# Altium footprint library MiniChessBoardPcbLib.PcbLib: 10 footprints
Each footprint in its own frame and in the unit in brackets; x right, y up, seen from the top. Pads: shape width x height; smd on the part's side, far side on the other; paste and mask are expansions set on the pad; w line width, h text height; cw(c..) or ccw(c..) is an arc to the next point about the centre after c.
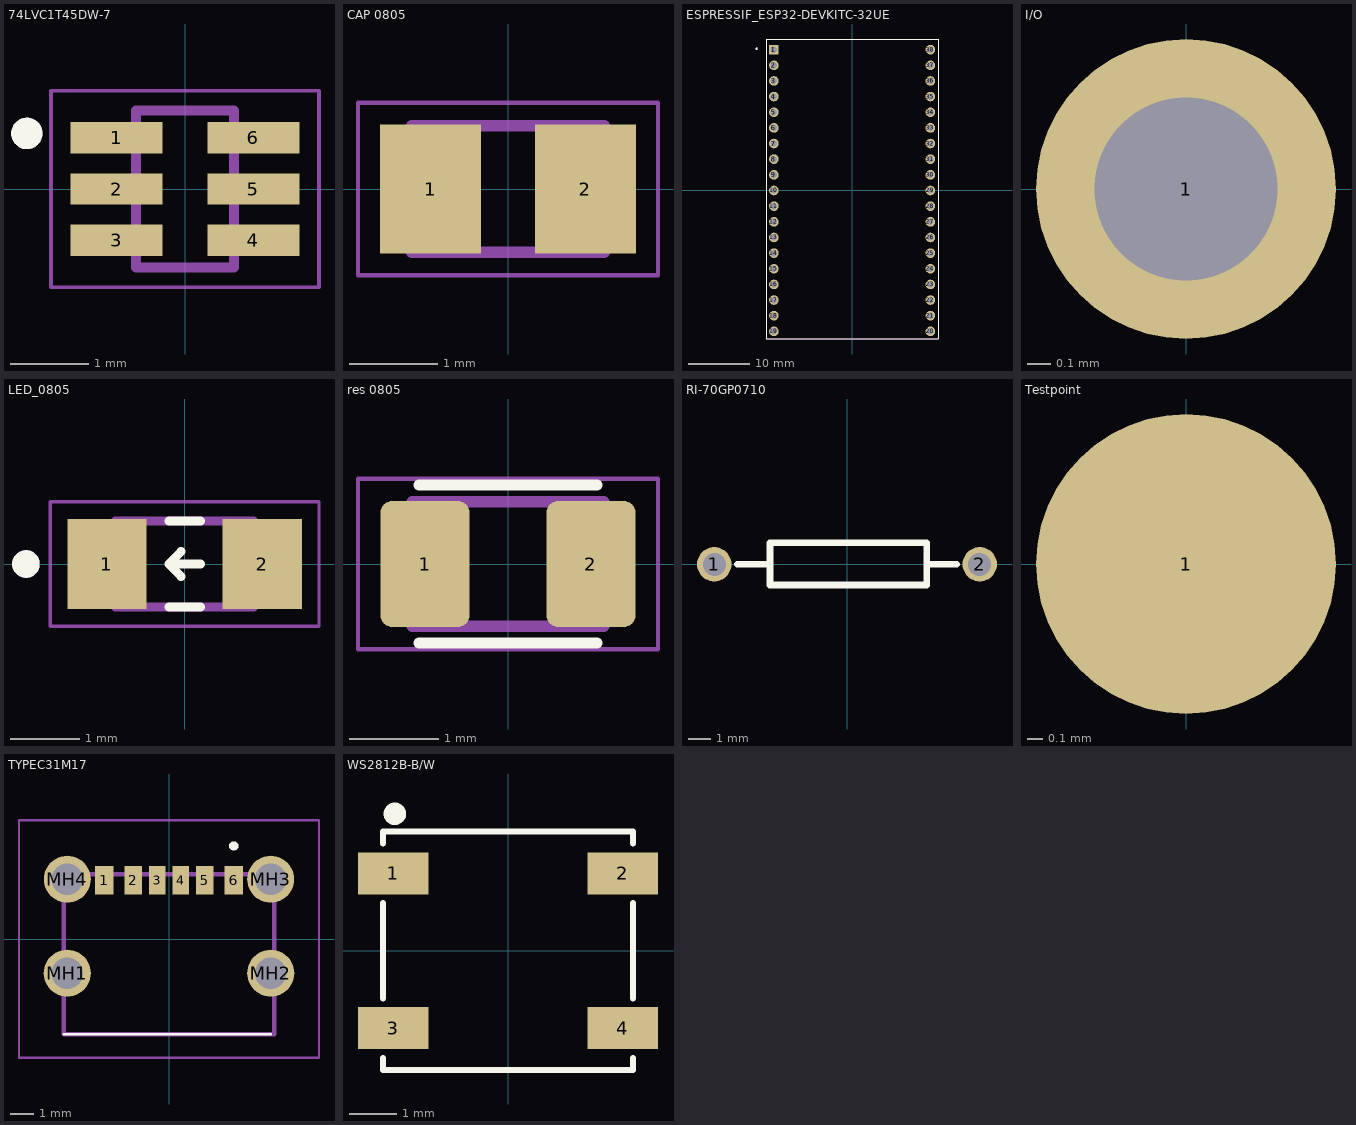
[diagram p0: the footprints below, top view; thin cyan lines are the x and y axes]

## 74LVC1T45DW-7 [mm]
pads (6):
  rect 1.17x0.4 smd mask+0.076: 1(-0.87,0.65) 2(-0.87,0) 3(-0.87,-0.65) 4(0.87,-0.65) 5(0.87,0) 6(0.87,0.65)
Top Overlay:
  circle w0.2: c-2.013,0.707 r0.1
Mechanical 13:
  circle w0.2: c-2.013,0.707 r0.1
  lines w0.127: -0.625,-1 0.625,-1 0.625,1 -0.625,1 -0.625,-1
Mechanical 15:
  lines w0.05: -1.705,-1.25 -1.705,1.25 1.705,1.25 1.705,-1.25 -1.705,-1.25
3D body "SOT363.step": height 0.92, standoff -0.03, extent -1.025,-1.109 1.075,1.041

## CAP 0805 [mm]
pads (2):
  rect 1.15x1.47 smd: 1(-0.88,0) 2(0.88,0)
Mechanical 4:
  lines w0.127: -1.1,-0.72 1.1,-0.72 ; -1.1,-0.72 -1.1,0.72 ; -1.1,-0.72 1.1,-0.72 ; -1.1,-0.72 -1.1,0.72 ; -1.1,0.72 1.1,0.72 ; -1.1,0.72 1.1,0.72 ; 1.1,-0.72 1.1,0.72 ; 1.1,-0.72 1.1,0.72
Mechanical 15:
  lines w0.05: -1.708,-0.983 -1.708,0.983 1.708,0.983 1.708,-0.983 -1.708,-0.983
3D body "CAPC0603 v1.step": height 0.5, standoff 0, extent -0.8,-0.4 0.8,0.4

## ESPRESSIF_ESP32-DEVKITC-32UE [mm]
pads (38):
  rect 1.56x1.56 hole 1.04: 1(-12.7,22.86)
  round 1.56 hole 1.04: 2(-12.7,20.32) 3(-12.7,17.78) 4(-12.7,15.24) 5(-12.7,12.7) 6(-12.7,10.16) 7(-12.7,7.62) 8(-12.7,5.08) 9(-12.7,2.54) 10(-12.7,0) 11(-12.7,-2.54) 12(-12.7,-5.08) 13(-12.7,-7.62) 14(-12.7,-10.16) 15(-12.7,-12.7) 16(-12.7,-15.24) 17(-12.7,-17.78) 18(-12.7,-20.32) 19(-12.7,-22.86) 20(12.7,-22.86) 21(12.7,-20.32) 22(12.7,-17.78) 23(12.7,-15.24) 24(12.7,-12.7) 25(12.7,-10.16) 26(12.7,-7.62) 27(12.7,-5.08) 28(12.7,-2.54) 29(12.7,0) 30(12.7,2.54) 31(12.7,5.08) 32(12.7,7.62) 33(12.7,10.16) 34(12.7,12.7) 35(12.7,15.24) 36(12.7,17.78) 37(12.7,20.32) 38(12.7,22.86)
Top Overlay:
  circle w0.2: c-15.5,23 r0.1
  lines w0.127: 13.945,24.585 -13.95,24.585 -13.95,-24.1 13.95,-24.1 13.95,24.585
Mechanical 13:
  circle w0.2: c-15.5,23 r0.1
  lines w0.127: -13.95,24.562 -13.95,-24.1 13.95,-24.1 ; -13.874,24.585 -6.899,24.585 7.051,24.585 13.843,24.585
3D body "ESP32-DEVKITC-32UE.step": height 7.85, standoff -5.5, extent -13.925,-24.62 13.975,24.13

## I/O [mm]
pads (1):
  round 1.308 hole 0.8: 1(0,0)

## LED_0805 [mm]
pads (2):
  rect 1.15x1.3 smd: 1(-1.125,0) 2(1.125,0)
Top Overlay:
  circle w0.2: c-2.3,0 r0.1
  lines w0.127: -0.23,-0.625 0.23,-0.625 ; -0.23,0.625 0.23,0.625 ; -0.05,-0.18 -0.23,0 ; -0.05,0.18 -0.23,0 ; 0.23,0 -0.23,0
Mechanical 13:
  circle w0.2: c-2.3,0 r0.1
  lines w0.127: -1,-0.625 -1,0.625 1,0.625 1,-0.625 -1,-0.625
Mechanical 15:
  lines w0.05: -1.95,-0.9 -1.95,0.9 1.95,0.9 1.95,-0.9 -1.95,-0.9
3D body "APT1608.sldprt": height 0.74, standoff -0.01, extent -0.81,-0.4 0.801,0.4

## res 0805 [mm]
pads (2):
  rrect25% 1x1.42 smd: 1(-0.935,0) 2(0.935,0)
Top Overlay:
  lines w0.127: -1,-0.89 1,-0.89 ; -1,0.89 1,0.89
Mechanical 13:
  lines w0.127: -1.08,-0.7 1.08,-0.7 1.08,0.7 -1.08,0.7 -1.08,-0.7
Mechanical 15:
  lines w0.05: -1.69,-0.96 1.69,-0.96 1.69,0.96 -1.69,0.96 -1.69,-0.96
3D body "resistor-0603.step": height 0.48, standoff -0.03, extent -0.8,-0.404 0.8,0.455

## RI-70GP0710 [mm]
pads (2):
  round 1.56 hole 1.04: 1(-6,0) 2(6,0)
Top Overlay:
  lines w0.3: -4.953,0 -3.505,0 ; -3.48,-0.94 -3.48,0.965 3.52,0.965 ; 3.607,-0.94 3.607,0.965 ; 3.607,0 4.953,0
  lines w0.305: -3.48,-0.94 3.52,-0.94

## Testpoint [mm]
pads (1):
  round 2 smd: 1(0,0)

## TYPEC31M17 [mm]
pads (10):
  rect 0.8x1.2 smd mask+0.076: 1(-2.75,2.5) 6(2.75,2.5)
  rect 0.76x1.2 smd mask+0.076: 2(-1.52,2.5) 5(1.52,2.5)
  rect 0.7x1.2 smd mask+0.076: 3(-0.5,2.5) 4(0.5,2.5)
  round 2 hole 1.346 mask+0.076: MH1(-4.32,-1.45) MH2(4.32,-1.45) MH3(4.318,2.54) MH4(-4.318,2.54)
Top Overlay:
  lines w0.1: -4.47,-4.05 4.32,-4.05
  lines w0.2: 2.75,3.85 cw(c2.75,3.95) 2.75,4.05 cw(c2.75,3.95) 2.75,3.85
Mechanical 15:
  lines w0.2: -4.47,-4.05 -4.47,2.75 4.47,2.75 4.47,-4.05 -4.47,-4.05
Mechanical 20:
  lines w0.1: -6.37,-5.05 -6.37,5.05 6.37,5.05 6.37,-5.05 -6.37,-5.05
3D body "TYPE-C-31-M-17.stp": height 3.16, standoff -1.04, extent -4.475,-4.225 4.475,3.175

## WS2812B-B/W [mm]
pads (4):
  rect 1.5x0.9 smd: 1(-2.45,1.65) 2(2.45,1.65) 3(-2.45,-1.65) 4(2.45,-1.65)
Top Overlay:
  circle w0.24: c-2.413,2.921 r0.12
  lines w0.127: -2.667,-2.286 -2.667,-2.54 2.667,-2.54 2.667,-2.286 ; -2.667,-1.016 -2.667,1.016 ; -2.667,2.286 -2.667,2.54 2.667,2.54 2.667,2.286 ; 2.667,-1.016 2.667,1.016
3D body "WS2812B.step": height 1.55, standoff -0.02, extent -2.674,-2.5 2.674,2.5